# Altium schematic symbol library 1825965-1.SchLib: 1 symbol
Pins are listed as number, name and electrical type; pins without a type are passive.

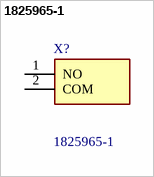
[diagram p0: symbol 1825965-1]

## 1825965-1
designator X?
Switch Tactile N.O. SPST Rectangular Button PC Pins 0.05A 24VDC 20000Cycles 1.3N Thru-Hole Loose; Manufacturer_Name: TE Connectivity; Geometry.Height: 5mm; TME Electronic Components Part Number: *; TME Electronic Components Price/Stock: *; Manufacturer_Part_Number: 1825965-1; Datasheet Link: https://www.arrow.com/en/products/1825965-1/te-connectivity
footprint 18259651
pins: 1 NO, 2 COM